# EAGLE library part TPS62130A (library Strutz Electronic Industries)
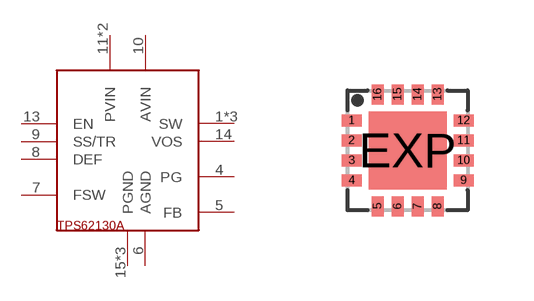
[diagram p13: symbol with the pads of QFN16-3X3; footprint QFN16-3X3]

Designator prefix -

## TPS62130A  [QFN16-3X3]
1  SW
2  SW
3  SW
4  PG
5  FB
6  AGND
7  FSW
8  DEF
9  SS/TR
10  AVIN
11  PVIN
12  PVIN
13  EN
14  VOS
15  PGND
16  PGND
EXP  PGND

## Footprint QFN16-3X3 (pad centres in mm)
smd 0.5 x 0.3: 1 -1.4,0.75; 2 -1.4,0.25; 3 -1.4,-0.25; 4 -1.4,-0.75; 9 1.4,-0.75; 10 1.4,-0.25; 11 1.4,0.25; 12 1.4,0.75
smd 0.3 x 0.5: 5 -0.75,-1.4; 6 -0.25,-1.4; 7 0.25,-1.4; 8 0.75,-1.4; 13 0.75,1.4; 14 0.25,1.4; 15 -0.25,1.4; 16 -0.75,1.4
smd 1.95 x 1.95: EXP 0,0